# EAGLE library part TPS2115ADRBR (library TPS2115ADRBR)
Autoswitching Power Mux Source: Datasheet <http://www.ti.com/lit/gpn/tps2115a>
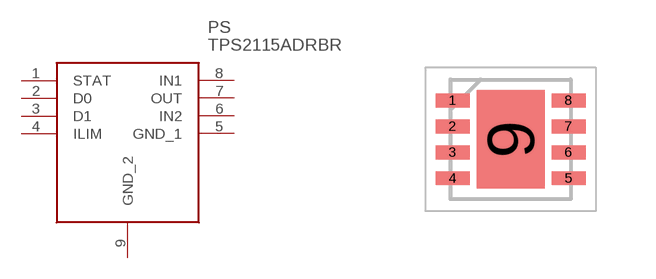
[diagram p0: symbol with the pads of SON65P300X300X100-9N; footprint SON65P300X300X100-9N]

Designator prefix PS

## TPS2115ADRBR (Description: Autoswitching Power Mux; Height: 1mm; Manufacturer_Name: Texas Instruments; Manufacturer_Part_Number: TPS2115ADRBR; Mouser_Part_Number: 595-TPS2115ADRBR; Mouser_Price-Stock: https://www.mouser.com/Search/Refine.aspx?Keyword=595-TPS2115ADRBR)  [SON65P300X300X100-9N]
1  STAT
2  D0
3  D1
4  ILIM
5  GND_1
6  IN2
7  OUT
8  IN1
9  GND_2

## Footprint SON65P300X300X100-9N (pad centres in mm)
DRB0008B
smd 0.85 x 0.35: 1 -1.45,0.975; 2 -1.45,0.325; 3 -1.45,-0.325; 4 -1.45,-0.975; 5 1.45,-0.975; 6 1.45,-0.325; 7 1.45,0.325; 8 1.45,0.975
smd 1.7 x 2.45: 9 0,0